# Altium integrated library Inductor.IntLib: 81 symbols
Pins are listed as number, name and electrical type; pins without a type are passive.

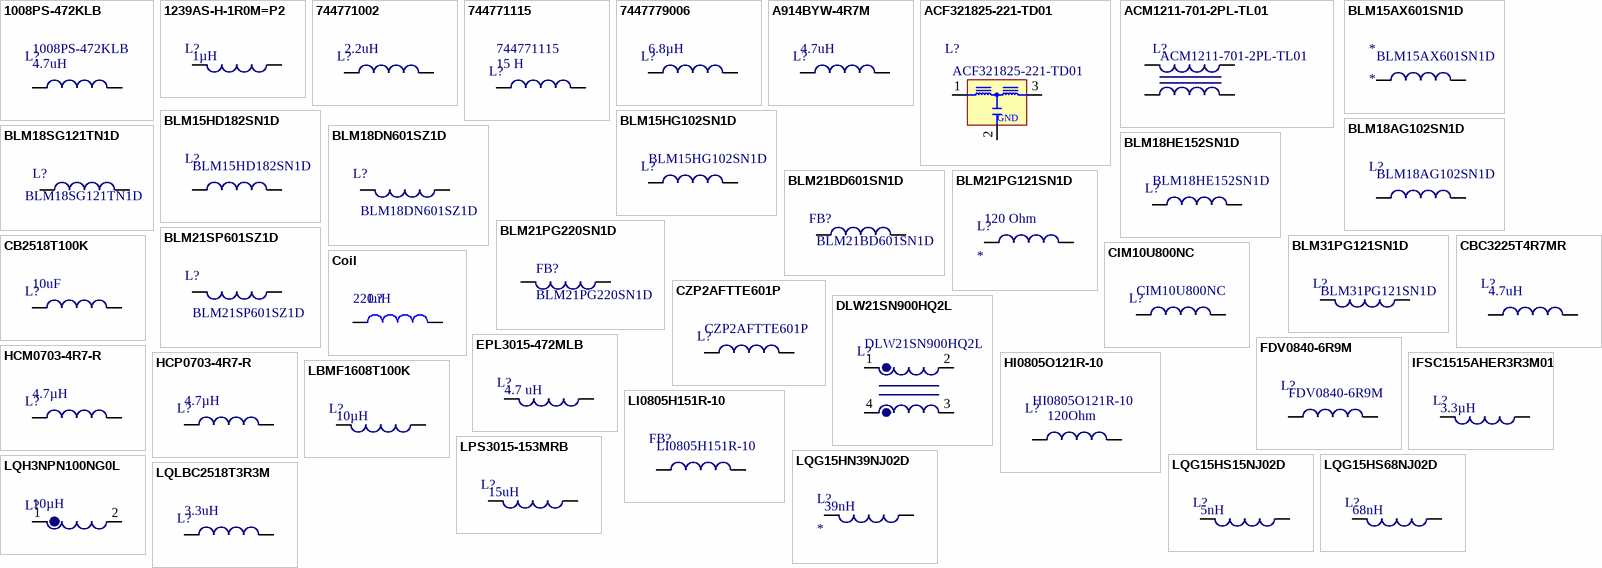
[diagram p0: symbols 1008PS-472KLB to LQLBC2518T3R3M]

## 1008PS-472KLB
designator L?  value 4.7uH  MPN: 1008PS-472KLB  (hidden comment: *)
Fixed Inductors 1008PS Hi SRF Shlded 4.7 uH 10 % 0.95 A; TYPE: Surface Mount; MFT: Coilcraft
footprint 1008 INDUCTOR
pins: 1, 2

## 1239AS-H-1R0M=P2
designator L?  value 1µH  (hidden comment: *)
IND 1UH 59 MOHM SMD; MPN: 1239AS-H-1R0M=P2; MFT: Murata Electronics North America; TYPE: Surface Mount
footprint IND2520
pins: 1, 2

## 744771002
designator L?  value 2.2uH  (hidden comment: *)
FIXED IND 2.2UH 10A 8 MOHM SMD; MPN: 744771002; MFT: Wurth Electronics; LOAD: *; TYPE: SMD; RATING: *
footprint 744771002 (FIXED IND 2.2UH 10A 8 MOHM SMD)
pins: 1, 2

## 744771115
designator L?  value 15 H  Manufacturer Part Number: 744771115  (hidden comment: *)
WURTH ELEKTRONIK         744771115             Surface Mount Power Inductor, WE-PD Series, 15 H, 3.75 A, 4.55 A, Shielded, 0.03 ohm; Manufacturer: Wurth Electronics; TYPE: SMD; LOAD: *; RATING: *
footprint 744771115
pins: 1, 2

## 7447779006
designator L?  value 6.8µH  (hidden comment: *)
FIXED IND 6.8UH 2.91A 35 MOHM; MPN: 7447779006; MFT: Wurth Electronics Inc; TYPE: Surface Mount
footprint 7345 INDUCTOR
pins: 1, 2

## A914BYW-4R7M
designator L?  value 4.7uH  (hidden comment: *)
MPN: A914BYW-4R7M; TYPE: Surface Mount; MFT: TOKO
footprint A914BYW-4R7M
pins: 1, 2

## ACF321825-221-TD01
designator L?  value ACF321825-221-TD01  (hidden comment: *)
FILTER LC(T) SMD; MFT: TDK; MPN: ACF321825-221-TD01; TYPE: SMD; LOAD: *; RATING: *
footprint ACF321825-221-TD01
pins: 1, 2, 3
text: GND

## ACM1211-701-2PL-TL01
designator L?  MPN: ACM1211-701-2PL-TL01  (hidden comment: *)
CHOKE COMMON MODE 700 OHM 8A SMD; MFT: TDK Corporation; VALUE: ACM1211-701-2PL-TL01; TYPE: Surface Mount
footprint ACM1211-701-2PL-TL01
pins: 1, 2, 3, 4

## BLM15AX601SN1D
designator *  MPN: BLM15AX601SN1D
FERRITE CHIP 600 OHM 0402; MFT: Murata Electronics North America; VALUE: BLM15AX601SN1D; RATING: 600 OHM; TYPE: SMD; LOAD: *
footprint 0402 INDUCTOR
pins: 1, 2

## BLM15HD182SN1D
designator L?  MPN: BLM15HD182SN1D  (hidden comment: *)
FERRITE BEAD 1.8 KOHM 0402 1LN; MFT: Murata Electronics North America; TYPE: Surface Mount; VALUE: BLM15HD182SN1D
footprint 0402 INDUCTOR
pins: 1, 2

## BLM15HG102SN1D
designator L?  MPN: BLM15HG102SN1D  (hidden comment: *)
Ferrite Beads 0402 1Kohms Tape GHz Band Gen Use; MFT: Murata Electronics; TYPE: Surface Mount; VALUE: BLM15HG102SN1D
footprint 0402 INDUCTOR
pins: 1, 2

## BLM18AG102SN1D
designator L?  MPN: BLM18AG102SN1D  (hidden comment: *)
FERRITE BEAD 1 KOHM 0603 1LN; MFT: Murata Electronics North America; TYPE: Surface Mount; VALUE: BLM18AG102SN1D
footprint 0603 Inductor
pins: 1, 2

## BLM18DN601SZ1D
designator L?  value BLM18DN601SZ1D  (hidden comment: *)
Ferritebead SMD Z100MHZ=600 Ohm 7; MFT: Murata; MPN: BLM18DN601SZ1D; TYPE: SMD; RATING: *; LOAD: *
footprint 0603 Inductor
pins: 1, 2

## BLM18HE152SN1D
designator L?  MPN: BLM18HE152SN1D  (hidden comment: *)
FERRITE CHIP 1500 OHM 500MA 0603; MFT: Murata Electronics North America; TYPE: Surface Mount; VALUE: BLM18HE152SN1D
footprint 0603 Inductor
pins: 1, 2

## BLM18SG121TN1D
designator L?  value BLM18SG121TN1D  (hidden comment: *)
FERRITE BEAD 120 OHM 0603 1LN; MFT: Murata Electronics North America; TYPE: SMD; MPN: BLM18SG121TN1D; RATING: *; LOAD: *
footprint 0603 Inductor
pins: 1, 2

## BLM21BD601SN1D
designator FB?  value BLM21BD601SN1D  (hidden comment: *)
FERRITE BEAD 600 OHM 0805 1LN; MFT: Murata; RATING: 600ohm; TYPE: SMD; MPN: BLM21BD601SN1D; LOAD: *
footprint 0805 (FERRITE)
pins: 1, 2

## BLM21PG121SN1D
designator L?  value 120 Ohm
FERRITE CHIP 120 OHM 0805; MPN: BLM21PG121SN1D; MFT: Murata Electronics North America; RATING: 3A; TYPE: Surface Mount
footprint 0805 INDUCTOR
pins: 1, 2

## BLM21PG220SN1D
designator FB?
FERRITE CHIP 22 OHM 0805; MFT: Murata Electronics North America; TYPE: Surface Mount; VALUE: BLM21PG220SN1D; MPN: BLM21PG220SN1D
footprint 0805 (FERRITE)
pins: 1, 2

## BLM21SP601SZ1D
designator L?  value BLM21SP601SZ1D  (hidden comment: *)
Ferritebead SMD Z100MHZ=600 Ohm 2; MFT: Murata; MPN: BLM21SP601SZ1D; TYPE: SMD; LOAD: *; RATING: *
footprint 0805 INDUCTOR
pins: 1, 2

## BLM31PG121SN1D
designator L?  MPN: BLM31PG121SN1D  (hidden comment: *)
EMI Suppression Filters; MFT: Murata; TYPE: SMD; VALUE: BLM31PG121SN1D; LOAD: *; RATING: *
footprint 1206 INDUCTOR
pins: 1, 2

## CB2518T100K
designator L?  value 10uF  (hidden comment: *)
FIXED IND 10UH 820MA 325 MOHM; MPN: CB2518T100K; MFT: Taiyo Yuden; TYPE: Surface Mount
footprint 1007 INDUCTOR
pins: 1, 2

## CBC3225T4R7MR
designator L?  value 4.7uH  (hidden comment: *)
FIXED IND 4.7UH 1.01A 130 MOHM; MPN: CBC3225T4R7MR; MFT: Taiyo Yuden; TYPE: SMD; LOAD: *; RATING: *
footprint 1210 INDUCTOR
pins: 1, 2

## CIM10U800NC
designator L?  MPN: CIM10U800NC  (hidden comment: *)
FERRITE CHIP 80 OHM 600MA 0603; MFT: Samsung Electro-Mechanics America, Inc; TYPE: Surface Mount; VALUE: CIM10U800NC
footprint 0603 Inductor
pins: 1, 2

## Coil
designator L?, comment value 220uH  (hidden comment: Inductor)
Fixed Inductors 220uH 10% 796KHz; MPN: CC453232-221KL; MFT: Bourns Inc.; TYPE: Surface Mount
footprint RES-1812 (Chip Capacitor; Body 4.5 x 3.2 mm (LxW typ))
pins: 1, 2

## CZP2AFTTE601P
designator L?  value CZP2AFTTE601P  (hidden comment: *)
EMI Filter Beads, Chips & Arrays 0805 600ohm 25%; MFT: KOA Speer; TYPE: Surface Mount; MPN: CZP2AFTTE601P
footprint 0805 INDUCTOR
pins: 1, 2

## DLW21SN900HQ2L
designator L?  MPN: DLW21SN900HQ2L  (hidden comment: *)
CMC 280MA 2LN 90 OHM SMD; MFT: Murata Electronics North America; TYPE: Surface Mount; VALUE: DLW21SN900HQ2L
footprint DLW21SN900HQ2L
pins: 1, 2, 3, 4

## EPL3015-472MLB
designator L?  value 4.7 uH  (hidden comment: *)
Fixed Inductors EPL3015 Low Profile 4.7 uH 20 % 1.4 A; MPN: EPL3015-472MLB; MFT: Coilcraft; TYPE: Surface Mount
footprint EPL3015-472MLB
pins: 1, 2

## FDV0840-6R9M
designator L?  MPN: FDV0840-6R9M  (hidden comment: *)
Murata INDUCTOR_SMLF-GT; MFT: Murata Electronics; TYPE: SMD; VALUE: FDV0840-6R9M; LOAD: *; RATING: *
footprint FDV0840-6R9M
pins: 1, 2

## HCM0703-4R7-R
designator L?  value 4.7µH  (hidden comment: *)
4.7 µH, ± 20%, Shielded, 0.04 ohm, 5.5 A; MPN: HCM0703-4R7-R; MFT: COILTRONICS; TYPE: Surface Mount
footprint HCM0703-4R7-R
pins: 1, 2

## HCP0703-4R7-R
designator L?  value 4.7µH  (hidden comment: *)
FIXED IND 4.7UH 5.5A 40 MOHM SMD; MPN: HCP0703-4R7-R; MFT: Eaton; TYPE: Surface Mount
footprint HCP0703-4R7-R
pins: 1, 2

## HI0805O121R-10
designator L?  value 120Ohm  MPN: HI0805O121R-10  (hidden comment: *)
FERRITE BEAD 120 OHM 0805 1LN; MFT: Laird-Signal Integrity Products; TYPE: SMD; LOAD: *; RATING: *
footprint 0805 (FERRITE)
pins: 1, 2

## IFSC1515AHER3R3M01
designator L?  value 3.3µH  (hidden comment: *)
FIXED IND 3.3UH 2.7A 56 MOHM SMD; MPN: IFSC1515AHER3R3M01; MFT: Vishay Dale; TYPE: Surface Mount; RATING: 2.7A
footprint IFSC1515AHER3R3M01
pins: 1, 2

## LBMF1608T100K
designator L?  value 10µH  (hidden comment: *)
FIXED IND 10UH 80MA 360 MOHM SMD; MPN: LBMF1608T100K; MFT: Taiyo Yuden; TYPE: Surface Mount
footprint 0603 Inductor
pins: 1, 2

## LI0805H151R-10
designator FB?  MPN: LI0805H151R-10  (hidden comment: *)
FERRITE 800MA 150 OHM 0805 SMD; MFT: Laird-Signal Integrity Products; VALUE: LI0805H151R-10; TYPE: SMD; LOAD: *
footprint 0805 INDUCTOR
pins: 1, 2

## LPS3015-153MRB
designator L?  value 15uH  (hidden comment: *)
COILCRAFT   LPS3015-153MRB   INDUCTOR, SHLD, 15UH, 20%, 0.44A, SMD; MFT: Coilcraft; MPN: LPS3015-153MRB; TYPE: SMD; RATING: *; LOAD: *
footprint LPS3015-153MRB
pins: 1, 2

## LQG15HN39NJ02D
designator L?  value 39nH
FIXED IND 39NH 200MA 1.06 OHM; MPN: LQG15HN39NJ02D; MFT: Murata Electronics North America; TYPE: Surface Mount
footprint 0402 INDUCTOR
pins: 1, 2

## LQG15HS15NJ02D
designator L?  value 5nH  (hidden comment: *)
FIXED IND 15NH 450MA 320 MOHM; MPN: LQG15HS15NJ02D; MFT: Murata Electronics North America; TYPE: SMD; LOAD: *; RATING: *
footprint 0402 INDUCTOR
pins: 1, 2

## LQG15HS68NJ02D
designator L?  value 68nH  (hidden comment: *)
FIXED IND 68NH 180MA 920 MOHM; MPN: LQG15HS68NJ02D; MFT: Murata Electronics North America; TYPE: Surface Mount
footprint 0402 INDUCTOR
pins: 1, 2

## LQH3NPN100NG0L
designator L?  value 10µH  (hidden comment: *)
FIXED IND 10UH 630MA 570 MOHM; MPN: LQH3NPN100NG0L; MFT: Murata Electronics North America; TYPE: Surface Mount
footprint 1212 Inductor
pins: 1, 2

## LQLBC2518T3R3M
designator L?  value 3.3uH  (hidden comment: *)
IND, 3.3uH; MPN: LQLBC2518T3R3M; MFT: TAIYO YUDEN; TYPE: Surface Mount; RATING: *; LOAD: *
footprint 1007 Inductor
pins: 1, 2

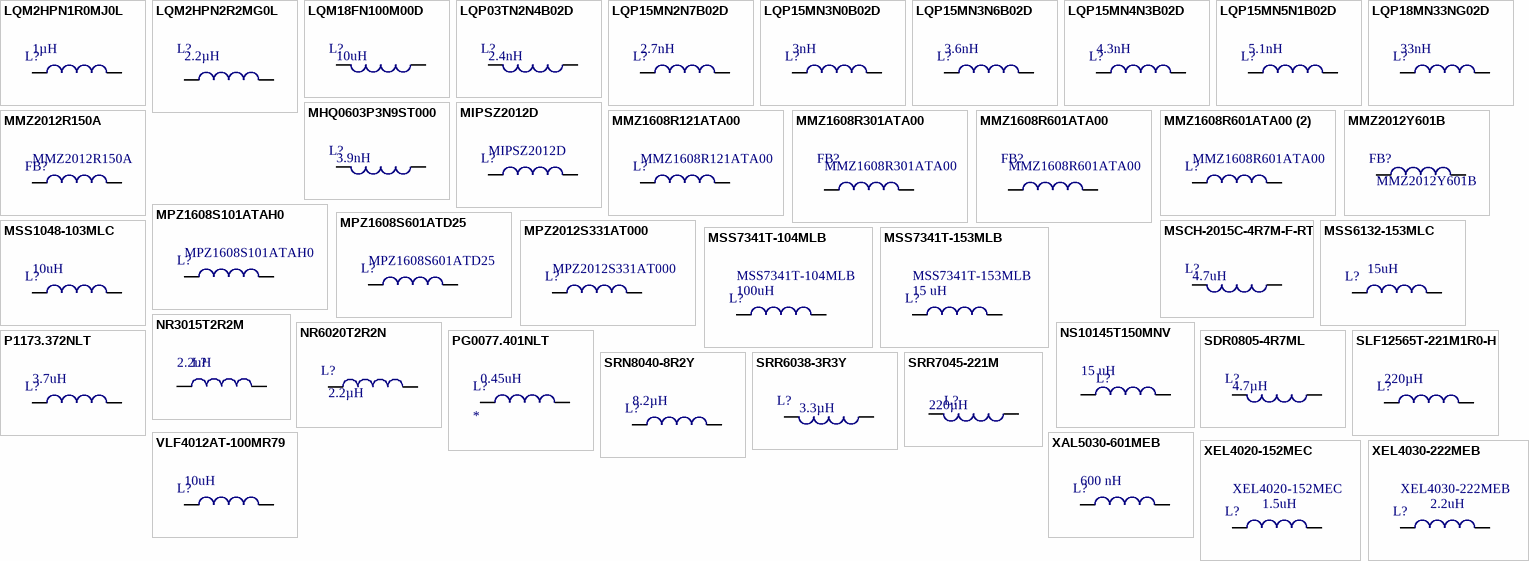
[diagram p1: symbols LQM2HPN1R0MJ0L to XEL4030-222MEB]

## LQM2HPN1R0MJ0L
designator L?  value 1µH  (hidden comment: *)
FIXED IND 1UH 1.5A 90 MOHM SMD; MPN: LQM2HPN1R0MJ0L; MFT: Murata Electronics North America; TYPE: Surface Mount
footprint 1008 INDUCTOR
pins: 1, 2

## LQM2HPN2R2MG0L
designator L?  value 2.2µH  (hidden comment: *)
FIXED IND 2.2UH 1.3A 80 MOHM SMD; MPN: LQM2HPN2R2MG0L; MFT: Murata Electronics North America; TYPE: SMD; LOAD: *
footprint 1008 INDUCTOR
pins: 1, 2

## LQM18FN100M00D
designator L?  value 10uH  (hidden comment: *)
FIXED IND 10UH 50MA 900 MOHM SMD; MPN: LQM18FN100M00D; MFT: Murata Electronics North America; LOAD: *; TYPE: SMD; RATING: *
footprint 0603 Inductor
pins: 1, 2

## LQP03TN2N4B02D
designator L?  value 2.4nH  (hidden comment: *)
FIXED IND 2.4NH 500MA 200 MOHM; MPN: LQP03TN2N4B02D; MFT: Murata Electronics North America; TYPE: SMD; LOAD: *; RATING: *
footprint 0201 INDUCTOR
pins: 1, 2

## LQP15MN2N7B02D
designator L?  value 2.7nH  (hidden comment: *)
FIXED IND 2.7NH 220MA 300 MOHM; MPN: LQP15MN2N7B02D; MFT: Murata; APN: LZ-00271-L7-00; TYPE: SMD; RATING: *; LOAD: *
footprint INDC1005X45N
pins: 1, 2

## LQP15MN3N0B02D
designator L?  value 3nH  (hidden comment: *)
FIXED IND 3NH 190MA 400 MOHM SMD; MPN: LQP15MN3N0B02D; MFT: Murata; APN: LZ-00030-L7-00; RATING: *; LOAD: *; TYPE: SMD
footprint INDC1005X45N
pins: 1, 2

## LQP15MN3N6B02D
designator L?  value 3.6nH  (hidden comment: *)
FIXED IND 3.6NH 170MA 500 MOHM; MPN: LQP15MN3N6B02D; MFT: Murata Electronics North America; TYPE: Surface Mount
footprint 0402 INDUCTOR
pins: 1, 2

## LQP15MN4N3B02D
designator L?  value 4.3nH  (hidden comment: *)
FIXED IND 4.3NH 160MA 600 MOHM; MPN: LQP15MN4N3B02D; MFT: Murata; APN: LZ-00431-L7-00; RATING: *; TYPE: *; LOAD: *
footprint INDC1005X45N
pins: 1, 2

## LQP15MN5N1B02D
designator L?  value 5.1nH  (hidden comment: *)
Inductor RF Chip ThFIXED IND 5.1NH 140MA 700 MOHM; MPN: LQP15MN5N1B02D; MFT: Murata; TYPE: SMD; APN: LZ-00511-L7-00; RATING: *; LOAD: *
footprint INDC1005X45N
pins: 1, 2

## LQP18MN33NG02D
designator L?  value 33nH  (hidden comment: *)
FIXED IND 33NH 100MA 2.8 OHM SMD; MPN: LQP18MN33NG02D; MFT: Murata Electronics North America; TYPE: SMD; LOAD: *
footprint 0603 INDUCTOR
pins: 1, 2

## MHQ0603P3N9ST000
designator L?  value 3.9nH  (hidden comment: *)
FIXED IND 3.9NH 400MA 350 MOHM; MPN: MHQ0603P3N9ST000; MFT: TDK Corporation; TYPE: SMD; LOAD: *; RATING: *
footprint 0201 INDUCTOR
pins: 1, 2

## MIPSZ2012D
designator L?  MPN: MIPSZ2012D  (hidden comment: *)
TYPE: SMD; VALUE: MIPSZ2012D; LOAD: *; MFT: *; RATING: *
footprint MIPSZ2012D
pins: 1, 2

## MMZ1608R121ATA00
designator L?  value MMZ1608R121ATA00  (hidden comment: *)
TDK   MMZ1608R121ATA00   FERRITE BEAD, 120 OHM, 500mA, 0603; TYPE: SMD; MFT: TDK; MPN: MMZ1608R121ATA00; RATING: *; LOAD: *
footprint 0603 Inductor
pins: 1, 2

## MMZ1608R301ATA00
designator FB?  MPN: MMZ1608R301ATA00  (hidden comment: *)
TDK         MMZ1608R301ATA00            FERRITE BEAD, 300 OHM, 500mA, 0603 , FULL REEL; TYPE: SMD; MFT: TDK; VALUE: MMZ1608R301ATA00; RATING: *; LOAD: *
footprint MMZ1608R301ATA00 (FERRITE BEAD 300 OHM 0603 1LN)
pins: 1, 2

## MMZ1608R601ATA00
designator FB?  MPN: MMZ1608R601ATA00  (hidden comment: *)
TDK   MMZ1608R601ATA00   FERRITE BEAD, 600 OHM, 500mA, 0603; MFT: TDK EPCOS; TYPE: SMD; LOAD: *; RATING: *; VALUE: MMZ1608R601ATA00
footprint MMZ1608R601ATA00 (FERRITE BEAD 600 OHM 0603 1LN)
pins: 1, 2

## MMZ1608R601ATA00 (2)
designator L?  value MMZ1608R601ATA00  (hidden comment: *)
TDK   MMZ1608R601ATA00   FERRITE BEAD, 600 OHM, 500mA, 0603; MFT: TDK EPCOS; TYPE: SMD; MPN: MMZ1608R601ATA00; RATING: *; LOAD: *
footprint 0603 Inductor
pins: 1, 2

## MMZ2012R150A
designator FB?  MPN: MMZ2012R150A  (hidden comment: *)
EMI Filter Beads, Chips & Arrays Ferrite Chip Beads; MFT: TDK; VALUE: MMZ2012R150A; TYPE: SMD; RATING: *; LOAD: *
footprint 0805 INDUCTOR
pins: 1, 2

## MMZ2012Y601B
designator FB?  value MMZ2012Y601B  (hidden comment: *)
TDK - MMZ2012Y601B - FERRITE BEAD, 0.2OHM, 500MA, 0805; TYPE: SMD; MFT: TDK; MPN: MMZ2012Y601B; LOAD: *; RATING: 500mA
footprint 0805 (FERRITE)
pins: 1, 2

## MPZ1608S101ATAH0
designator L?  MPN: MPZ1608S101ATAH0  (hidden comment: *)
FERRITE CHIP 100 OHM 3A 0603; MFT: TDK Corporation; TYPE: Surface Mount; VALUE: MPZ1608S101ATAH0
footprint 0603 Inductor
pins: 1, 2

## MPZ1608S601ATD25
designator L?  MPN: MPZ1608S601ATD25  (hidden comment: *)
FERRITE CHIP BEAD; MFT: TDK Corporation; TYPE: Surface Mount; VALUE: MPZ1608S601ATD25
footprint 0603 Inductor
pins: 1, 2

## MPZ2012S331AT000
designator L?  MPN: MPZ2012S331AT000  (hidden comment: *)
FERRITE CHIP 330 OHM 2.5A 0805; MFT: TDK Corporation; TYPE: Surface Mount; VALUE: MPZ2012S331AT000
footprint 0805 INDUCTOR
pins: 1, 2

## MSCH-2015C-4R7M-F-RT
designator L?  value 4.7uH  (hidden comment: *)
IND EC07 SMD 4.7uH 20% 700mA 360mOHM dcR MAX 2.0X1.5X1.7mm; MPN: MSCH-2015C-4R7M-F-RT; MFT: Mag .Layers Scientific-Technics Co.,Ltd.; TYPE: Surface Mount
footprint MSCH-2015C-4R7M-F-RT
pins: 1, 2

## MSS1048-103MLC
designator L?  value 10uH  (hidden comment: *)
Inductor, SMT, 4A, 26milliohm; MPN: MSS1048-103MLC; MFT: Coilcraft; TYPE: Surface Mount
footprint MSS1048-103MLC
pins: 1, 2

## MSS6132-153MLC
designator L?  value 15uH  (hidden comment: *)
Fixed Inductors MSS6132 AEC-Q200 15 uH 20 % 2.2 A; MPN: MSS6132-153MLC; MFT: Coilcraft; TYPE: SMD; RATING: *; LOAD: *
footprint MSS6132-153MLC
pins: 1, 2

## MSS7341T-104MLB
designator L?  value 100uH  MPN: MSS7341T-104MLB  (hidden comment: *)
Fixed Inductors MSS7341T High Temp 100 uH 20 % 1.15 A; MFT: Coilcraft; TYPE: Surface Mount
footprint MSS7341T-104MLB
pins: 1, 2

## MSS7341T-153MLB
designator L?  value 15 uH  MPN: MSS7341T-153MLB  (hidden comment: *)
Fixed Inductors MSS7341T High Temp 15 uH 20% 3A Ferrite; MFT: Coilcraft; TYPE: SMD/SMT
footprint MSS7341T-153MLB
pins: 1, 2

## NR3015T2R2M
designator L?  value 2.2uH  (hidden comment: NR3015T2R2M)
FIXED IND 2.2UH 1.5A 72 MOHM SMD; MFT: Taiyo Yuden; TYPE: Surface Mount; MPN: NR3015T2R2M
footprint NR3015 (SMD Power Inductors)
pins: 1, 2

## NR6020T2R2N
designator L?  value 2.2µH  (hidden comment: *)
FIXED IND 2.2UH 2.7A 40.8 MOHM; MPN: NR6020T2R2N; MFT: Taiyo Yuden; TYPE: SMD; LOAD: *; RATING: 2.7A
footprint NR6020T2R2N
pins: 1, 2

## NS10145T150MNV
designator L?  value 15 uH  (hidden comment: NS10145T150MNV)
Fixed Inductors AEC-Q200 INDUCTOR SMD 15uH 20%; MFT: Taiyo Yuden; TYPE: SMD/SMT; MPN: NS10145T150MNV
footprint NS10145T150MNV
pins: 1, 2

## P1173.372NLT
designator L?  value 3.7uH  (hidden comment: *)
Fixed Inductors SHD DRUM CORE IND; MPN: P1173.372NLT; MFT: Pulse; TYPE: Surface Mount
footprint P1173.372NLT
pins: 1, 2

## PG0077.401NLT
designator L?  value 0.45uH
FIXED IND 450NH 45A 0.8 MOHM SMD; MPN: PG0077.401NLT; MFT: Pulse; TYPE: SMD/SMT
footprint PG0077.401NLT
pins: 1, 2

## SDR0805-4R7ML
designator L?  value 4.7µH  (hidden comment: *)
FIXED IND 4.7UH 3.7A 30 MOHM SMD; MPN: SDR0805-4R7ML; MFT: Bourns Inc.; TYPE: SMD; RATING: 3.7A; LOAD: *
footprint SDR0805-4R7ML
pins: 1, 2

## SLF12565T-221M1R0-H
designator L?  value 220µH  (hidden comment: *)
FIXED IND 220UH 1A 273 MOHM SMD; MPN: SLF12565T-221M1R0-H; MFT: TDK Corporation; TYPE: Surface Mount
footprint SLF12565T-221M1R0-H
pins: 1, 2

## SRN8040-8R2Y
designator L?  value 8.2µH  (hidden comment: *)
FIXED IND 8.2UH 3.7A 45 MOHM SMD; MPN: SRN8040-8R2Y; MFT: Bourns Inc.; TYPE: Surface Mount
footprint SRN8040-8R2Y
pins: 1, 2

## SRR6038-3R3Y
designator L?  value 3.3µH  (hidden comment: *)
FIXED IND 3.3UH 3.5A 20 MOHM SMD; MPN: SRR6038-3R3Y; MFT: Bourns Inc.; TYPE: SMD; RATING: 3.5A; LOAD: *
footprint SRR6038-3R3Y
pins: 1, 2

## SRR7045-221M
designator L?  value 220µH  (hidden comment: SRR7045-221M)
FIXED IND 220UH 450MA 700 MOHM; MFT: Bourns Inc.; TYPE: Surface Mount; MPN: SRR7045-221M
footprint SRR7045-221M (inductor)
pins: 1, 2

## VLF4012AT-100MR79
designator L?  value 10uH  (hidden comment: *)
FIXED IND 10UH 790MA 350 MOHM; MPN: VLF4012AT-100MR79; MFT: TDK Corporation; TYPE: SMD; LOAD: *
footprint VLF4012AT-100MR79
pins: 1, 2

## XAL5030-601MEB
designator L?  value 600 nH  (hidden comment: *)
Fixed Inductors XAL5030 High Current 0.6 uH 20 % 17.7 A; MPN: XAL5030-601MEB; TYPE: Surface Mount; MFT: Coilcraft
footprint XAL5030-601MEB
pins: 1, 2

## XEL4020-152MEC
designator L?  value 1.5uH  MPN: XEL4020-152MEC  (hidden comment: *)
Fixed Inductors 1.5uH 20% 7.5A 23.6mOhms AEC-Q200; MFT: Coilcraft; TYPE: SMD; RATING: *; LOAD: *
footprint XEL4020-152MEC
pins: 1, 2

## XEL4030-222MEB
designator L?  value 2.2uH  MPN: XEL4030-222MEB  (hidden comment: *)
Fixed Inductors 2.2uH 20% 7.8A 22.1mOhms AEC-Q200; MFT: Coilcraft; TYPE: SMD; RATING: *; LOAD: *
footprint XEL4030-222MEB
pins: 1, 2

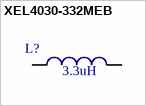
[diagram p2: symbol XEL4030-332MEB]

## XEL4030-332MEB
designator L?  value 3.3uH  (hidden comment: *)
Power inductor, shielded, 20% tol, SMT, RoHS, halogen-free; MPN: XEL4030-332MEB; MFT: Coilcraft; TYPE: SMD; LOAD: *; RATING: *
footprint XEL4030-332MEB
pins: 1, 2